# EAGLE library part SAM-M8Q (library watchplb)
u-blox SAM GNSS antenna module
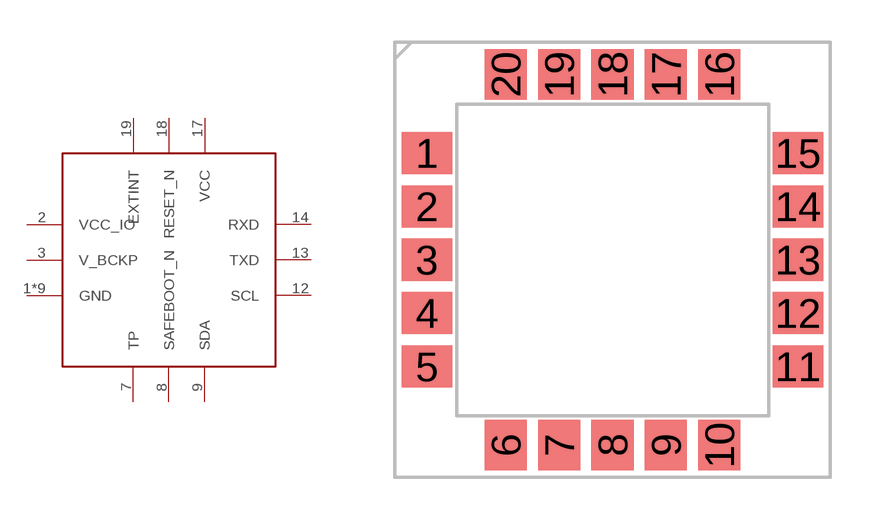
[diagram p9: symbol with the pads of SAM-M8Q; footprint SAM-M8Q]

Designator prefix IC

## SAM-M8Q  [SAM-M8Q]
1  GND
2  VCC_IO
3  V_BCKP
4  GND
5  GND
6  GND
7  TP
8  SAFEBOOT_N
9  SDA
10  GND
11  GND
12  SCL
13  TXD
14  RXD
15  GND
16  GND
17  VCC
18  RESET_N
19  EXTINT
20  GND

## Footprint SAM-M8Q (pad centres in mm)
smd 1.8 x 1.5: 1 -6.6,3.8; 2 -6.6,1.9; 3 -6.6,0; 4 -6.6,-1.9; 5 -6.6,-3.8; 11 6.6,-3.8; 12 6.6,-1.9; 13 6.6,0; 14 6.6,1.9; 15 6.6,3.8
smd 1.5 x 1.8: 6 -3.8,-6.6; 7 -1.9,-6.6; 8 0,-6.6; 9 1.9,-6.6; 10 3.8,-6.6; 16 3.8,6.6; 17 1.9,6.6; 18 0,6.6; 19 -1.9,6.6; 20 -3.8,6.6